# Altium schematic symbol library pag7935lt.SchLib: 1 symbol
Pins are listed as number, name and electrical type; pins without a type are passive.

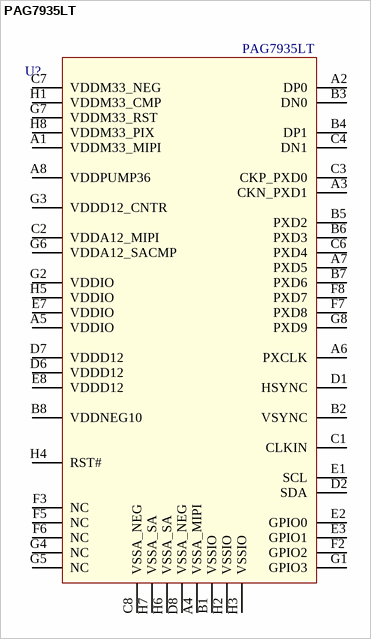
[diagram p0: symbol PAG7935LT]

## PAG7935LT
designator U?, comment MPN: PAG7935LT  (hidden comment: PAG7935)
MF: PixArt
footprint PAG7935
pins: A1 VDDM33_MIPI, A2 DP0, A3 CKN_PXD1, A4 VSSA_MIPI, A5 VDDIO, A6 PXCLK, A7 PXD5, A8 VDDPUMP36, B1 VSSIO, B2 VSYNC, B3 DN0, B4 DP1, B5 PXD2, B6 PXD3, B7 PXD6, B8 VDDNEG10, C1 CLKIN, C2 VDDA12_MIPI, C3 CKP_PXD0, C4 DN1, C6 PXD4, C7 VDDM33_NEG, C8 VSSA_NEG, D1 HSYNC, D2 SDA, D6 VDDD12, D7 VDDD12, D8 VSSA_NEG, E1 SCL, E2 GPIO0, E3 GPIO1, E7 VDDIO, E8 VDDD12, F2 GPIO2, F3 NC, F5 NC, F6 NC, F7 PXD8, F8 PXD7, G1 GPIO3, G2 VDDIO, G3 VDDD12_CNTR, G4 NC, G5 NC, G6 VDDA12_SACMP, G7 VDDM33_RST, G8 PXD9, H1 VDDM33_CMP, H2 VSSIO, H3 VSSIO, H4 RST#, H5 VDDIO, H6 VSSA_SA, H7 VSSA_SA, H8 VDDM33_PIX